# EAGLE library part DSPIC30F3013-20I/SO (library Microchip_By_element14_Batch_1)
16-bit Digital Signal Controllers
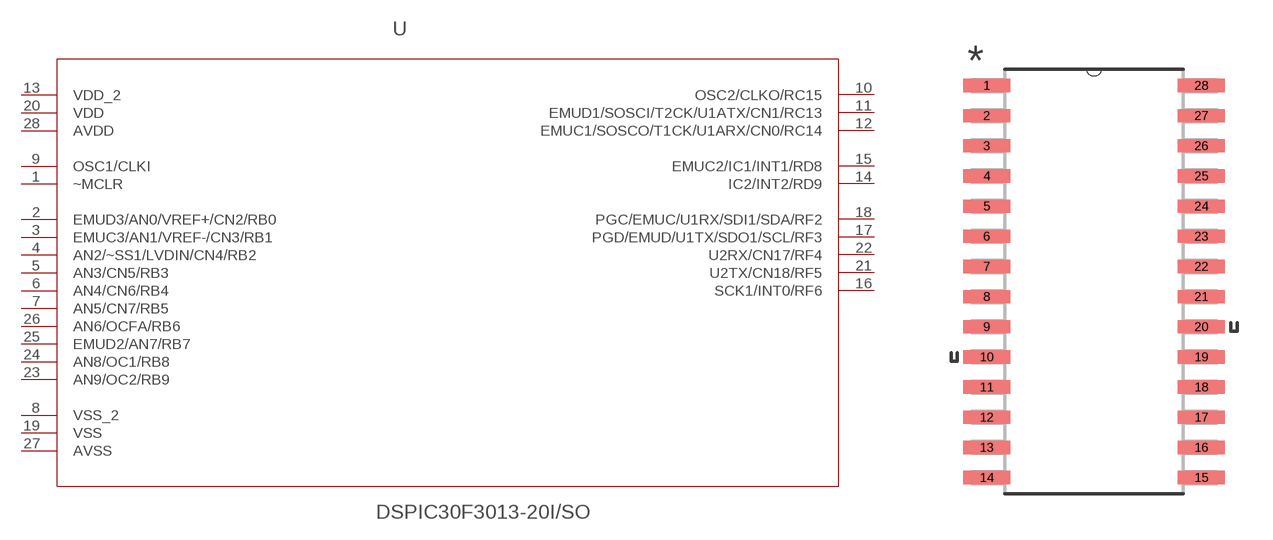
[diagram p294: symbol with the pads of SOIC127P1030X265-28N; footprint SOIC127P1030X265-28N]

Designator prefix -

## DSPIC30F3013-20I/SO (MPN: DSPIC30F3013-20I/SO; OC_FARNELL: -; OC_NEWARK: 71J3731; PACKAGE: SOIC-28; SUPPLIER: Microchip)  [SOIC127P1030X265-28N]
1  ~MCLR  in
2  EMUD3/AN0/VREF+/CN2/RB0
3  EMUC3/AN1/VREF-/CN3/RB1
4  AN2/~SS1/LVDIN/CN4/RB2
5  AN3/CN5/RB3
6  AN4/CN6/RB4
7  AN5/CN7/RB5
8  VSS_2  pwr
9  OSC1/CLKI  in
10  OSC2/CLKO/RC15
11  EMUD1/SOSCI/T2CK/U1ATX/CN1/RC13
12  EMUC1/SOSCO/T1CK/U1ARX/CN0/RC14
13  VDD_2  pwr
14  IC2/INT2/RD9
15  EMUC2/IC1/INT1/RD8
16  SCK1/INT0/RF6
17  PGD/EMUD/U1TX/SDO1/SCL/RF3
18  PGC/EMUC/U1RX/SDI1/SDA/RF2
19  VSS  pwr
20  VDD  pwr
21  U2TX/CN18/RF5
22  U2RX/CN17/RF4
23  AN9/OC2/RB9
24  AN8/OC1/RB8
25  EMUD2/AN7/RB7
26  AN6/OCFA/RB6
27  AVSS  pwr
28  AVDD  pwr

## Footprint SOIC127P1030X265-28N (pad centres in mm)
smd 1.981 x 0.559: 1 -4.521,8.255; 2 -4.521,6.985; 3 -4.521,5.715; 4 -4.521,4.445; 5 -4.521,3.175; 6 -4.521,1.905; 7 -4.521,0.635; 8 -4.521,-0.635; 9 -4.521,-1.905; 10 -4.521,-3.175; 11 -4.521,-4.445; 12 -4.521,-5.715; 13 -4.521,-6.985; 14 -4.521,-8.255; 15 4.521,-8.255; 16 4.521,-6.985; 17 4.521,-5.715; 18 4.521,-4.445; 19 4.521,-3.175; 20 4.521,-1.905; 21 4.521,-0.635; 22 4.521,0.635; 23 4.521,1.905; 24 4.521,3.175; 25 4.521,4.445; 26 4.521,5.715; 27 4.521,6.985; 28 4.521,8.255